# Altium footprint library IR Discrete MOSFET - Half Bridge.PcbLib: 2 footprints
Each footprint in its own frame and in the unit in brackets; x right, y up, seen from the top. Pads: shape width x height; smd on the part's side, far side on the other; paste and mask are expansions set on the pad; w line width, h text height; cw(c..) or ccw(c..) is an arc to the next point about the centre after c.
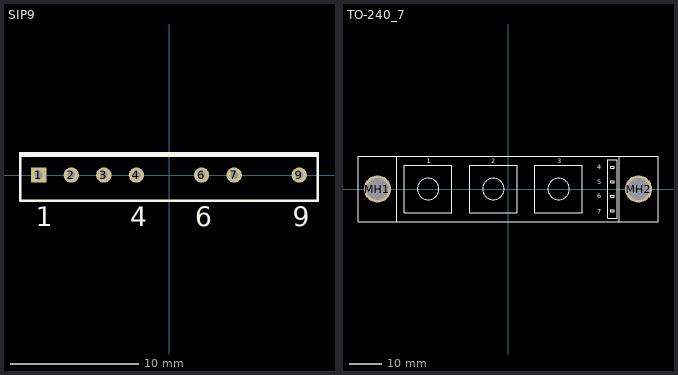
[diagram p0: the footprints below, top view; thin cyan lines are the x and y axes]

## SIP9 [mm] "SIP; 9 Leads (2 Absent); Body 22.9 x 3.4 mm (LxW typ); Pitch 2.54 mm"
height 9.9
pads (7):
  rect 1.2x1.2 hole 0.6: 1(-10.16,0)
  round 1.2 hole 0.6: 2(-7.62,0) 3(-5.08,0) 4(-2.54,0) 6(2.54,0) 7(5.08,0) 9(10.16,0)
Top Overlay:
  rectangle: -11.7,1.4 11.7,1.8
  lines w0.2: -11.6,1.7 -11.6,-2 11.6,-2 11.6,1.7
  text "9" at 9.66,-3.975 h1.5
  text "1" at -10.41,-3.975 h1.5
  text "6" at 2.04,-3.975 h1.5
  text "4" at -3.04,-3.975 h1.5

## TO-240_7 [mm] "Power Module/TO-240-AA; 3 Screw & 4 Quick-Connect Terminals; Body 92 x 20 x 37 mm (LxWxH)"
height 37
pads (2):
  round 8.3 hole 6.8: MH1(-40.005,0) MH2(40.005,0)
Top Overlay:
  circle w0.2: c-24.474,0 r3.3
  circle w0.2: c-4.474,0 r3.3
  circle w0.2: c15.526,0 r3.3
  lines w0.2: -34.108,-9.995 -34.108,9.995 ; 34.108,-9.995 34.108,9.995 ; -45.974,-9.995 45.974,-9.995 45.974,9.995 -45.974,9.995 -45.974,-9.995 ; -31.774,-7.3 -31.774,7.3 -17.174,7.3 -17.174,-7.3 -31.774,-7.3 ; -11.774,-7.3 2.826,-7.3 2.826,7.3 -11.774,7.3 -11.774,-7.3 ; 8.226,-7.3 22.826,-7.3 22.826,7.3 8.226,7.3 8.226,-7.3 ; 30.526,-9 33.526,-9 33.526,9 30.526,9 30.526,-9 ; 31.526,-6.906 31.526,-6.406 32.526,-6.406 32.526,-6.906 31.526,-6.906 ; 31.526,-2.469 31.526,-1.969 32.526,-1.969 32.526,-2.469 31.526,-2.469 ; 31.526,1.969 31.526,2.469 32.526,2.469 32.526,1.969 31.526,1.969 ; 31.526,6.406 31.526,6.906 32.526,6.906 32.526,6.406 31.526,6.406
  text "1" at -24.906,7.962 h1.5
  text "3" at 15.084,7.876 h1.5
  text "2" at -5.113,7.876 h1.5
  text "5" at 27.349,1.447 h1.5
  text "6" at 27.291,-2.802 h1.5
  text "7" at 27.349,-7.633 h1.5
  text "4" at 27.349,6.104 h1.5